# EAGLE library part MCP9600 (library SutorberyLinux)
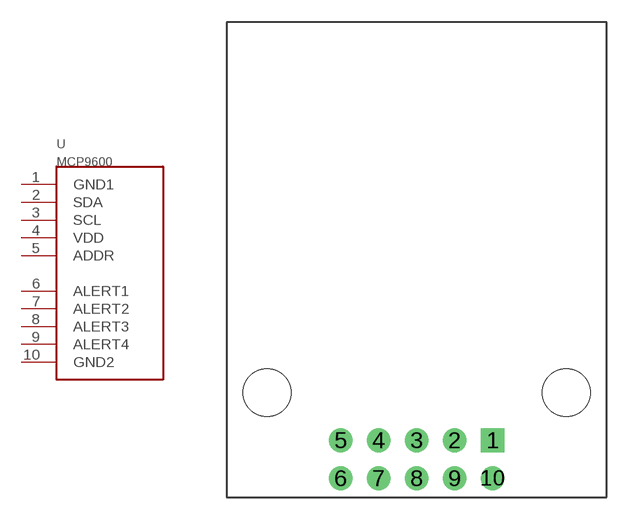
[diagram p0: symbol with the pads of MCP9600; footprint MCP9600]

Designator prefix -

## MCP9600  [MCP9600]
1  GND1
2  SDA
3  SCL
4  VDD
5  ADDR
6  ALERT1
7  ALERT2
8  ALERT3
9  ALERT4
10  GND2

## Footprint MCP9600 (pad centres in mm)
drill 0.8 pad 1.6 square: 1 5.08,0
drill 0.8 pad 1.6: 2 2.54,0; 3 0,0; 4 -2.54,0; 5 -5.08,0; 6 -5.08,-2.54; 7 -2.54,-2.54; 8 0,-2.54; 9 2.54,-2.54; 10 5.08,-2.54
hole 3.2 at -10,3.18
hole 3.2 at 10,3.18